# Altium footprint library PCB - DIODES - SEMTECH SLP2510P8.PcbLib: 1 footprints
Each footprint in its own frame and in the unit in brackets; x right, y up, seen from the top. Pads: shape width x height; smd on the part's side, far side on the other; paste and mask are expansions set on the pad; w line width, h text height; cw(c..) or ccw(c..) is an arc to the next point about the centre after c.
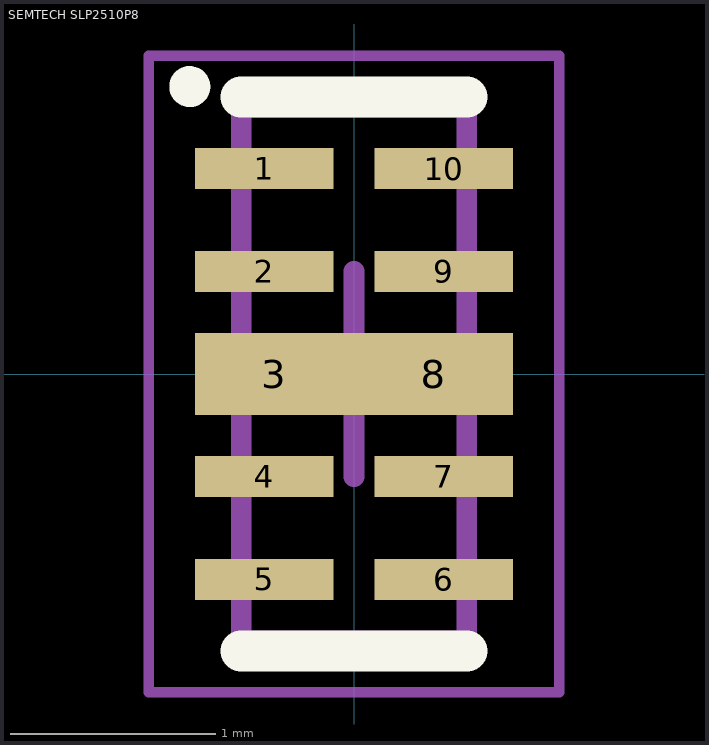
[diagram p0: the footprint, top view; thin cyan lines are the x and y axes]

## SEMTECH SLP2510P8 [mm] "10-Leads, Body 2.50x1.00mm, Pitch 0.50mm"
height 0.65
pads (10):
  rect 0.675x0.2 smd: 1(-0.437,1) 2(-0.437,0.5) 4(-0.437,-0.5) 5(-0.437,-1) 6(0.437,-1) 7(0.437,-0.5) 9(0.437,0.5) 10(0.437,1)
  rect 0.775x0.4 smd: 3(-0.387,0) 8(0.387,0)
Top Overlay:
  circle w0.1: c-0.8,1.4 r0.05
  lines w0.2: -0.55,-1.35 0.55,-1.35 ; -0.55,1.35 0.55,1.35
Mechanical 13:
  lines w0.1: -0.55,-1.3 0.55,-1.3 0.55,1.3 -0.55,1.3 -0.55,-1.3
Mechanical 15:
  lines w0.05: -1,-1.55 1,-1.55 1,1.55 -1,1.55 -1,-1.55
Mechanical 2 (Mech9):
  lines w0.1: -0.5,0 0.5,0 ; 0,-0.5 0,0.5
3D body "SEMTECH RCLAMP0522P.step": height 0.65, standoff 0, extent -0.51,-1.25 0.51,1.25